# EAGLE library part LOLIN_NODEMCU_V3 (library LoLin_NodeMCU-V3)
LoLin Node MCU V3
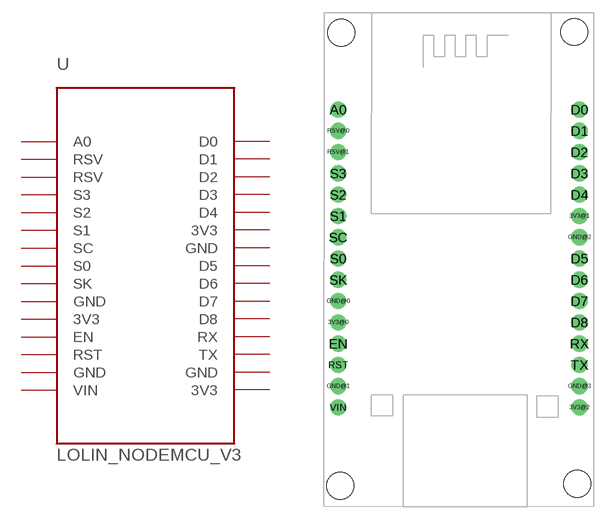
[diagram p0: symbol with the pads of LOLIN_NODEMCU_V3; footprint LOLIN_NODEMCU_V3]

Designator prefix -

## LOLIN_NODEMCU_V3A  [LOLIN_NODEMCU_V3]
3V3@0  3V3
3V3@1  3V3
3V3@2  3V3
A0  A0
D0  D0
D1  D1
D2  D2
D3  D3
D4  D4
D5  D5
D6  D6
D7  D7
D8  D8
EN  EN
GND@0  GND
GND@1  GND
GND@2  GND
GND@3  GND
RST  RST
RSV@0  RSV
RSV@1  RSV
RX  RX
S0  S0
S1  S1
S2  S2
S3  S3
SC  SC
SK  SK
TX  TX
VIN  VIN

## Footprint LOLIN_NODEMCU_V3 (pad centres in mm)
LoLiN Node MCI V3
drill 0.8 pad 1.93: 3V3@0 -11.561,-11.692; 3V3@1 17.219,1.012; 3V3@2 17.219,-21.848; A0 -11.561,13.708; D0 17.219,13.712; D1 17.219,11.172; D2 17.219,8.632; D3 17.219,6.092; D4 17.219,3.552; D5 17.219,-4.068; D6 17.219,-6.608; D7 17.219,-9.148; D8 17.219,-11.688; EN -11.561,-14.232; GND@0 -11.561,-9.152; GND@1 -11.561,-19.312; GND@2 17.219,-1.528; GND@3 17.219,-19.308; RST -11.561,-16.772; RSV@0 -11.561,11.168; RSV@1 -11.561,8.628; RX 17.219,-14.228; S0 -11.561,-4.072; S1 -11.561,1.008; S2 -11.561,3.548; S3 -11.561,6.088; SC -11.561,-1.532; SK -11.561,-6.612; TX 17.219,-16.768; VIN -11.561,-21.852
hole 3.2 at -11.222,22.901
hole 3.2 at 16.592,22.977
hole 3.2 at 16.932,-30.957
hole 3.2 at -11.341,-31.21